# Altium schematic symbol library SCH - CONNECTORS - SAMTEC - IPL1-103-XX-X-D-X.SCHLIB: 1 symbol
Pins are listed as number, name and electrical type; pins without a type are passive.

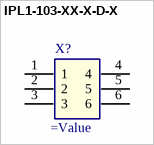
[diagram p0: symbol IPL1-103-XX-X-D-X]

## IPL1-103-XX-X-D-X
designator X?
2.54mm Double Row Terminal Assembly
pins: 1, 2, 3, 4, 5, 6